# EAGLE library part LED8X8 (library IsaacAlonso)
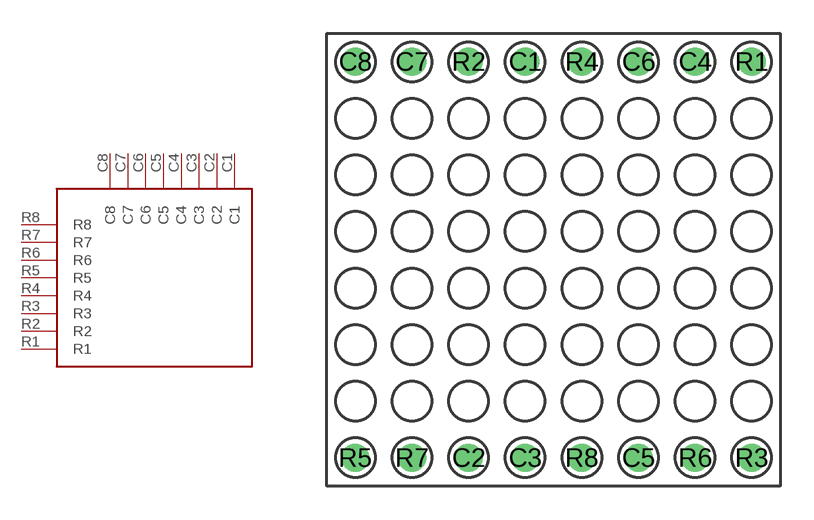
[diagram p1: symbol with the pads of LED8X8; footprint LED8X8]

Designator prefix -

## LED8X8  [LED8X8]
C1  C1
C2  C2
C3  C3
C4  C4
C5  C5
C6  C6
C7  C7
C8  C8
R1  R1
R2  R2
R3  R3
R4  R4
R5  R5
R6  R6
R7  R7
R8  R8

## Footprint LED8X8 (pad centres in mm)
drill 0.635 pad 1.27: C1 -1.27,8.89; C2 -3.81,-8.89; C3 -1.27,-8.89; C4 6.35,8.89; C5 3.81,-8.89; C6 3.81,8.89; C7 -6.35,8.89; C8 -8.89,8.89; R1 8.89,8.89; R2 -3.81,8.89; R3 8.89,-8.89; R4 1.27,8.89; R5 -8.89,-8.89; R6 6.35,-8.89; R7 -6.35,-8.89; R8 1.27,-8.89